# Altium footprint library Texas Instruments Footprints.PcbLib: 429 footprints (part 11 of 32)
Each footprint in its own frame and in the unit in brackets; x right, y up, seen from the top. Pads: shape width x height; smd on the part's side, far side on the other; paste and mask are expansions set on the pad; w line width, h text height; cw(c..) or ccw(c..) is an arc to the next point about the centre after c.
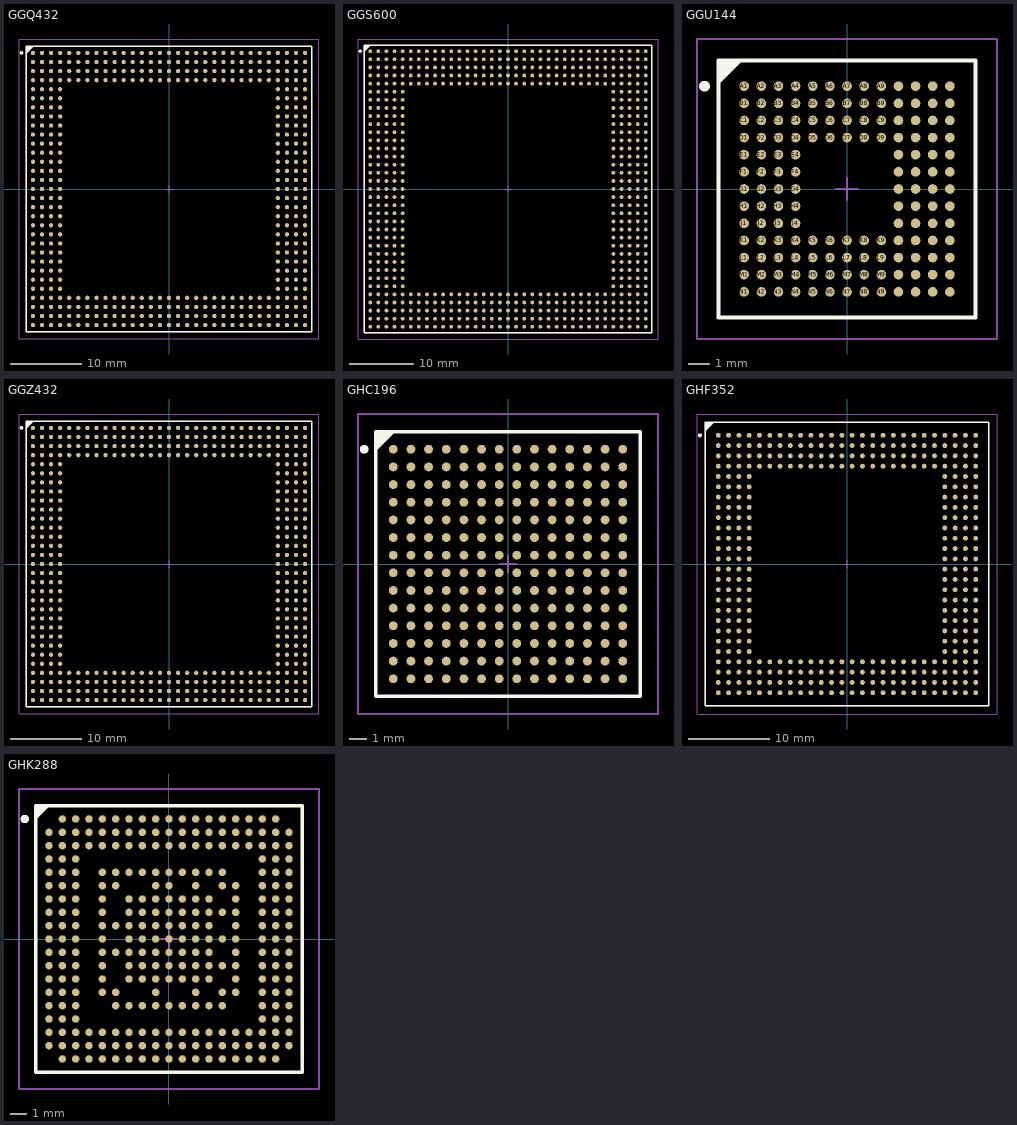
[diagram p10: the footprints below, top view; thin cyan lines are the x and y axes]

## GGQ432 [mm] "432-Ball Ball Grid Array 1.27 mm Pitch"
height 1.7
pads (432):
  round 0.6 smd: A1(-19.05,19.05) A2(-17.78,19.05) A3(-16.51,19.05) A4(-15.24,19.05) A5(-13.97,19.05) A6(-12.7,19.05) A7(-11.43,19.05) A8(-10.16,19.05) A9(-8.89,19.05) A10(-7.62,19.05) A11(-6.35,19.05) A12(-5.08,19.05) A13(-3.81,19.05) A14(-2.54,19.05) A15(-1.27,19.05) A16(0,19.05) A17(1.27,19.05) A18(2.54,19.05) A19(3.81,19.05) A20(5.08,19.05) A21(6.35,19.05) A22(7.62,19.05) A23(8.89,19.05) A24(10.16,19.05) A25(11.43,19.05) A26(12.7,19.05) A27(13.97,19.05) A28(15.24,19.05) A29(16.51,19.05) A30(17.78,19.05) A31(19.05,19.05) AA1(-19.05,-6.35) AA2(-17.78,-6.35) AA3(-16.51,-6.35) AA4(-15.24,-6.35) AA28(15.24,-6.35) AA29(16.51,-6.35) AA30(17.78,-6.35) AA31(19.05,-6.35) AB1(-19.05,-7.62) AB2(-17.78,-7.62) AB3(-16.51,-7.62) AB4(-15.24,-7.62) AB28(15.24,-7.62) AB29(16.51,-7.62) AB30(17.78,-7.62) AB31(19.05,-7.62) AC1(-19.05,-8.89) AC2(-17.78,-8.89) AC3(-16.51,-8.89) AC4(-15.24,-8.89) AC28(15.24,-8.89) AC29(16.51,-8.89) AC30(17.78,-8.89) AC31(19.05,-8.89) AD1(-19.05,-10.16) AD2(-17.78,-10.16) AD3(-16.51,-10.16) AD4(-15.24,-10.16) AD28(15.24,-10.16) AD29(16.51,-10.16) AD30(17.78,-10.16) AD31(19.05,-10.16) AE1(-19.05,-11.43) AE2(-17.78,-11.43) AE3(-16.51,-11.43) AE4(-15.24,-11.43) AE28(15.24,-11.43) AE29(16.51,-11.43) AE30(17.78,-11.43) AE31(19.05,-11.43) AF1(-19.05,-12.7) AF2(-17.78,-12.7) AF3(-16.51,-12.7) AF4(-15.24,-12.7) AF28(15.24,-12.7) AF29(16.51,-12.7) AF30(17.78,-12.7) AF31(19.05,-12.7) AG1(-19.05,-13.97) AG2(-17.78,-13.97) AG3(-16.51,-13.97) AG4(-15.24,-13.97) AG28(15.24,-13.97) AG29(16.51,-13.97) AG30(17.78,-13.97) AG31(19.05,-13.97) AH1(-19.05,-15.24) AH2(-17.78,-15.24) AH3(-16.51,-15.24) AH4(-15.24,-15.24) AH5(-13.97,-15.24) AH6(-12.7,-15.24) AH7(-11.43,-15.24) AH8(-10.16,-15.24) AH9(-8.89,-15.24) AH10(-7.62,-15.24) AH11(-6.35,-15.24) AH12(-5.08,-15.24) AH13(-3.81,-15.24) AH14(-2.54,-15.24) AH15(-1.27,-15.24) AH16(0,-15.24) AH17(1.27,-15.24) AH18(2.54,-15.24) AH19(3.81,-15.24) AH20(5.08,-15.24) AH21(6.35,-15.24) AH22(7.62,-15.24) AH23(8.89,-15.24) AH24(10.16,-15.24) AH25(11.43,-15.24) AH26(12.7,-15.24) AH27(13.97,-15.24) AH28(15.24,-15.24) AH29(16.51,-15.24) AH30(17.78,-15.24) AH31(19.05,-15.24) AJ1(-19.05,-16.51) AJ2(-17.78,-16.51) AJ3(-16.51,-16.51) AJ4(-15.24,-16.51) AJ5(-13.97,-16.51) AJ6(-12.7,-16.51) AJ7(-11.43,-16.51) AJ8(-10.16,-16.51) AJ9(-8.89,-16.51) AJ10(-7.62,-16.51) AJ11(-6.35,-16.51) AJ12(-5.08,-16.51) AJ13(-3.81,-16.51) AJ14(-2.54,-16.51) AJ15(-1.27,-16.51) AJ16(0,-16.51) AJ17(1.27,-16.51) AJ18(2.54,-16.51) AJ19(3.81,-16.51) AJ20(5.08,-16.51) AJ21(6.35,-16.51) AJ22(7.62,-16.51) AJ23(8.89,-16.51) AJ24(10.16,-16.51) AJ25(11.43,-16.51) AJ26(12.7,-16.51) AJ27(13.97,-16.51) AJ28(15.24,-16.51) AJ29(16.51,-16.51) AJ30(17.78,-16.51) AJ31(19.05,-16.51) AK1(-19.05,-17.78) AK2(-17.78,-17.78) AK3(-16.51,-17.78) AK4(-15.24,-17.78) AK5(-13.97,-17.78) AK6(-12.7,-17.78) AK7(-11.43,-17.78) AK8(-10.16,-17.78) AK9(-8.89,-17.78) AK10(-7.62,-17.78) AK11(-6.35,-17.78) AK12(-5.08,-17.78) AK13(-3.81,-17.78) AK14(-2.54,-17.78) AK15(-1.27,-17.78) AK16(0,-17.78) AK17(1.27,-17.78) AK18(2.54,-17.78) AK19(3.81,-17.78) AK20(5.08,-17.78) AK21(6.35,-17.78) AK22(7.62,-17.78) AK23(8.89,-17.78) AK24(10.16,-17.78) AK25(11.43,-17.78) AK26(12.7,-17.78) AK27(13.97,-17.78) AK28(15.24,-17.78) AK29(16.51,-17.78) AK30(17.78,-17.78) AK31(19.05,-17.78) AL1(-19.05,-19.05) AL2(-17.78,-19.05) AL3(-16.51,-19.05) AL4(-15.24,-19.05) AL5(-13.97,-19.05) AL6(-12.7,-19.05) AL7(-11.43,-19.05) AL8(-10.16,-19.05) AL9(-8.89,-19.05) AL10(-7.62,-19.05) AL11(-6.35,-19.05) AL12(-5.08,-19.05) AL13(-3.81,-19.05) AL14(-2.54,-19.05) AL15(-1.27,-19.05) AL16(0,-19.05) AL17(1.27,-19.05) AL18(2.54,-19.05) AL19(3.81,-19.05) AL20(5.08,-19.05) AL21(6.35,-19.05) AL22(7.62,-19.05) AL23(8.89,-19.05) AL24(10.16,-19.05) AL25(11.43,-19.05) AL26(12.7,-19.05) AL27(13.97,-19.05) AL28(15.24,-19.05) AL29(16.51,-19.05) AL30(17.78,-19.05) AL31(19.05,-19.05) B1(-19.05,17.78) B2(-17.78,17.78) B3(-16.51,17.78) B4(-15.24,17.78) B5(-13.97,17.78) B6(-12.7,17.78) B7(-11.43,17.78) B8(-10.16,17.78) B9(-8.89,17.78) B10(-7.62,17.78) B11(-6.35,17.78) B12(-5.08,17.78) B13(-3.81,17.78) B14(-2.54,17.78) B15(-1.27,17.78) B16(0,17.78) B17(1.27,17.78) B18(2.54,17.78) B19(3.81,17.78) B20(5.08,17.78) B21(6.35,17.78) B22(7.62,17.78) B23(8.89,17.78) B24(10.16,17.78) B25(11.43,17.78) B26(12.7,17.78) B27(13.97,17.78) B28(15.24,17.78) B29(16.51,17.78) B30(17.78,17.78) B31(19.05,17.78) C1(-19.05,16.51) C2(-17.78,16.51) C3(-16.51,16.51) C4(-15.24,16.51) C5(-13.97,16.51) C6(-12.7,16.51) C7(-11.43,16.51) C8(-10.16,16.51) C9(-8.89,16.51) C10(-7.62,16.51) C11(-6.35,16.51) C12(-5.08,16.51) C13(-3.81,16.51) C14(-2.54,16.51) C15(-1.27,16.51) C16(0,16.51) C17(1.27,16.51) C18(2.54,16.51) C19(3.81,16.51) C20(5.08,16.51) C21(6.35,16.51) C22(7.62,16.51) C23(8.89,16.51) C24(10.16,16.51) C25(11.43,16.51) C26(12.7,16.51) C27(13.97,16.51) C28(15.24,16.51) C29(16.51,16.51) C30(17.78,16.51) C31(19.05,16.51) D1(-19.05,15.24) D2(-17.78,15.24) D3(-16.51,15.24) D4(-15.24,15.24) D5(-13.97,15.24) D6(-12.7,15.24) D7(-11.43,15.24) D8(-10.16,15.24) D9(-8.89,15.24) D10(-7.62,15.24) D11(-6.35,15.24) D12(-5.08,15.24) D13(-3.81,15.24) D14(-2.54,15.24) D15(-1.27,15.24) D16(0,15.24) D17(1.27,15.24) D18(2.54,15.24) D19(3.81,15.24) D20(5.08,15.24) D21(6.35,15.24) D22(7.62,15.24) D23(8.89,15.24) D24(10.16,15.24) D25(11.43,15.24) D26(12.7,15.24) D27(13.97,15.24) D28(15.24,15.24) D29(16.51,15.24) D30(17.78,15.24) D31(19.05,15.24) E1(-19.05,13.97) E2(-17.78,13.97) E3(-16.51,13.97) E4(-15.24,13.97) E28(15.24,13.97) E29(16.51,13.97) E30(17.78,13.97) E31(19.05,13.97) F1(-19.05,12.7) F2(-17.78,12.7) F3(-16.51,12.7) F4(-15.24,12.7) F28(15.24,12.7) F29(16.51,12.7) F30(17.78,12.7) F31(19.05,12.7) G1(-19.05,11.43) G2(-17.78,11.43) G3(-16.51,11.43) G4(-15.24,11.43) G28(15.24,11.43) G29(16.51,11.43) G30(17.78,11.43) G31(19.05,11.43) H1(-19.05,10.16) H2(-17.78,10.16) H3(-16.51,10.16) H4(-15.24,10.16) H28(15.24,10.16) H29(16.51,10.16) H30(17.78,10.16) H31(19.05,10.16) J1(-19.05,8.89) J2(-17.78,8.89) J3(-16.51,8.89) J4(-15.24,8.89) J28(15.24,8.89) J29(16.51,8.89) J30(17.78,8.89) J31(19.05,8.89) K1(-19.05,7.62) K2(-17.78,7.62) K3(-16.51,7.62) K4(-15.24,7.62) K28(15.24,7.62) K29(16.51,7.62) K30(17.78,7.62) K31(19.05,7.62) L1(-19.05,6.35) L2(-17.78,6.35) L3(-16.51,6.35) L4(-15.24,6.35) L28(15.24,6.35) L29(16.51,6.35) L30(17.78,6.35) L31(19.05,6.35) M1(-19.05,5.08) M2(-17.78,5.08) M3(-16.51,5.08) M4(-15.24,5.08) M28(15.24,5.08) M29(16.51,5.08) M30(17.78,5.08) M31(19.05,5.08) N1(-19.05,3.81) N2(-17.78,3.81) N3(-16.51,3.81) N4(-15.24,3.81) N28(15.24,3.81) N29(16.51,3.81) N30(17.78,3.81) N31(19.05,3.81) P1(-19.05,2.54) P2(-17.78,2.54) P3(-16.51,2.54) P4(-15.24,2.54) P28(15.24,2.54) P29(16.51,2.54) P30(17.78,2.54) P31(19.05,2.54) R1(-19.05,1.27) R2(-17.78,1.27) R3(-16.51,1.27) R4(-15.24,1.27) R28(15.24,1.27) R29(16.51,1.27) R30(17.78,1.27) R31(19.05,1.27) T1(-19.05,0) T2(-17.78,0) T3(-16.51,0) T4(-15.24,0) T28(15.24,0) T29(16.51,0) T30(17.78,0) T31(19.05,0) U1(-19.05,-1.27) U2(-17.78,-1.27) U3(-16.51,-1.27) U4(-15.24,-1.27) U28(15.24,-1.27) U29(16.51,-1.27) U30(17.78,-1.27) U31(19.05,-1.27) V1(-19.05,-2.54) V2(-17.78,-2.54) V3(-16.51,-2.54) V4(-15.24,-2.54) V28(15.24,-2.54) V29(16.51,-2.54) V30(17.78,-2.54) V31(19.05,-2.54) W1(-19.05,-3.81) W2(-17.78,-3.81) W3(-16.51,-3.81) W4(-15.24,-3.81) W28(15.24,-3.81) W29(16.51,-3.81) W30(17.78,-3.81) W31(19.05,-3.81) Y1(-19.05,-5.08) Y2(-17.78,-5.08) Y3(-16.51,-5.08) Y4(-15.24,-5.08) Y28(15.24,-5.08) Y29(16.51,-5.08) Y30(17.78,-5.08) Y31(19.05,-5.08)
Top Overlay:
  circle w0.25: c-20.65,19.05 r0.125
  region: -19.09,20 -20,19.09 -20,20
  lines w0.2: -20,19.09 -19.09,20 ; -20,-20 -20,20 20,20 20,-20 -20,-20
Mechanical 13:
  lines w0.1: -20,-20 -20,20 20,20 20,-20 -20,-20
Mechanical 15:
  lines w0.1: -0.5,0 0.5,0 ; 0,-0.5 0,0.5 ; -21,-21 -21,21 21,21 21,-21 -21,-21
3D body: height 1.7, standoff 0, extent -20,-20 20,20

## GGS600 [mm] "600-Ball Ball Grid Array 1.27 mm Pitch"
height 1.7
pads (600):
  round 0.6 smd: A1(-21.59,21.59) A2(-20.32,21.59) A3(-19.05,21.59) A4(-17.78,21.59) A5(-16.51,21.59) A6(-15.24,21.59) A7(-13.97,21.59) A8(-12.7,21.59) A9(-11.43,21.59) A10(-10.16,21.59) A11(-8.89,21.59) A12(-7.62,21.59) A13(-6.35,21.59) A14(-5.08,21.59) A15(-3.81,21.59) A16(-2.54,21.59) A17(-1.27,21.59) A18(0,21.59) A19(1.27,21.59) A20(2.54,21.59) A21(3.81,21.59) A22(5.08,21.59) A23(6.35,21.59) A24(7.62,21.59) A25(8.89,21.59) A26(10.16,21.59) A27(11.43,21.59) A28(12.7,21.59) A29(13.97,21.59) A30(15.24,21.59) A31(16.51,21.59) A32(17.78,21.59) A33(19.05,21.59) A34(20.32,21.59) A35(21.59,21.59) AA1(-21.59,-3.81) AA2(-20.32,-3.81) AA3(-19.05,-3.81) AA4(-17.78,-3.81) AA5(-16.51,-3.81) AA31(16.51,-3.81) AA32(17.78,-3.81) AA33(19.05,-3.81) AA34(20.32,-3.81) AA35(21.59,-3.81) AB1(-21.59,-5.08) AB2(-20.32,-5.08) AB3(-19.05,-5.08) AB4(-17.78,-5.08) AB5(-16.51,-5.08) AB31(16.51,-5.08) AB32(17.78,-5.08) AB33(19.05,-5.08) AB34(20.32,-5.08) AB35(21.59,-5.08) AC1(-21.59,-6.35) AC2(-20.32,-6.35) AC3(-19.05,-6.35) AC4(-17.78,-6.35) AC5(-16.51,-6.35) AC31(16.51,-6.35) AC32(17.78,-6.35) AC33(19.05,-6.35) AC34(20.32,-6.35) AC35(21.59,-6.35) AD1(-21.59,-7.62) AD2(-20.32,-7.62) AD3(-19.05,-7.62) AD4(-17.78,-7.62) AD5(-16.51,-7.62) AD31(16.51,-7.62) AD32(17.78,-7.62) AD33(19.05,-7.62) AD34(20.32,-7.62) AD35(21.59,-7.62) AE1(-21.59,-8.89) AE2(-20.32,-8.89) AE3(-19.05,-8.89) AE4(-17.78,-8.89) AE5(-16.51,-8.89) AE31(16.51,-8.89) AE32(17.78,-8.89) AE33(19.05,-8.89) AE34(20.32,-8.89) AE35(21.59,-8.89) AF1(-21.59,-10.16) AF2(-20.32,-10.16) AF3(-19.05,-10.16) AF4(-17.78,-10.16) AF5(-16.51,-10.16) AF31(16.51,-10.16) AF32(17.78,-10.16) AF33(19.05,-10.16) AF34(20.32,-10.16) AF35(21.59,-10.16) AG1(-21.59,-11.43) AG2(-20.32,-11.43) AG3(-19.05,-11.43) AG4(-17.78,-11.43) AG5(-16.51,-11.43) AG31(16.51,-11.43) AG32(17.78,-11.43) AG33(19.05,-11.43) AG34(20.32,-11.43) AG35(21.59,-11.43) AH1(-21.59,-12.7) AH2(-20.32,-12.7) AH3(-19.05,-12.7) AH4(-17.78,-12.7) AH5(-16.51,-12.7) AH31(16.51,-12.7) AH32(17.78,-12.7) AH33(19.05,-12.7) AH34(20.32,-12.7) AH35(21.59,-12.7) AJ1(-21.59,-13.97) AJ2(-20.32,-13.97) AJ3(-19.05,-13.97) AJ4(-17.78,-13.97) AJ5(-16.51,-13.97) AJ31(16.51,-13.97) AJ32(17.78,-13.97) AJ33(19.05,-13.97) AJ34(20.32,-13.97) AJ35(21.59,-13.97) AK1(-21.59,-15.24) AK2(-20.32,-15.24) AK3(-19.05,-15.24) AK4(-17.78,-15.24) AK5(-16.51,-15.24) AK31(16.51,-15.24) AK32(17.78,-15.24) AK33(19.05,-15.24) AK34(20.32,-15.24) AK35(21.59,-15.24) AL1(-21.59,-16.51) AL2(-20.32,-16.51) AL3(-19.05,-16.51) AL4(-17.78,-16.51) AL5(-16.51,-16.51) AL6(-15.24,-16.51) AL7(-13.97,-16.51) AL8(-12.7,-16.51) AL9(-11.43,-16.51) AL10(-10.16,-16.51) AL11(-8.89,-16.51) AL12(-7.62,-16.51) AL13(-6.35,-16.51) AL14(-5.08,-16.51) AL15(-3.81,-16.51) AL16(-2.54,-16.51) AL17(-1.27,-16.51) AL18(0,-16.51) AL19(1.27,-16.51) AL20(2.54,-16.51) AL21(3.81,-16.51) AL22(5.08,-16.51) AL23(6.35,-16.51) AL24(7.62,-16.51) AL25(8.89,-16.51) AL26(10.16,-16.51) AL27(11.43,-16.51) AL28(12.7,-16.51) AL29(13.97,-16.51) AL30(15.24,-16.51) AL31(16.51,-16.51) AL32(17.78,-16.51) AL33(19.05,-16.51) AL34(20.32,-16.51) AL35(21.59,-16.51) AM1(-21.59,-17.78) AM2(-20.32,-17.78) AM3(-19.05,-17.78) AM4(-17.78,-17.78) AM5(-16.51,-17.78) AM6(-15.24,-17.78) AM7(-13.97,-17.78) AM8(-12.7,-17.78) AM9(-11.43,-17.78) AM10(-10.16,-17.78) AM11(-8.89,-17.78) AM12(-7.62,-17.78) AM13(-6.35,-17.78) AM14(-5.08,-17.78) AM15(-3.81,-17.78) AM16(-2.54,-17.78) AM17(-1.27,-17.78) AM18(0,-17.78) AM19(1.27,-17.78) AM20(2.54,-17.78) AM21(3.81,-17.78) AM22(5.08,-17.78) AM23(6.35,-17.78) AM24(7.62,-17.78) AM25(8.89,-17.78) AM26(10.16,-17.78) AM27(11.43,-17.78) AM28(12.7,-17.78) AM29(13.97,-17.78) AM30(15.24,-17.78) AM31(16.51,-17.78) AM32(17.78,-17.78) AM33(19.05,-17.78) AM34(20.32,-17.78) AM35(21.59,-17.78) AN1(-21.59,-19.05) AN2(-20.32,-19.05) AN3(-19.05,-19.05) AN4(-17.78,-19.05) AN5(-16.51,-19.05) AN6(-15.24,-19.05) AN7(-13.97,-19.05) AN8(-12.7,-19.05) AN9(-11.43,-19.05) AN10(-10.16,-19.05) AN11(-8.89,-19.05) AN12(-7.62,-19.05) AN13(-6.35,-19.05) AN14(-5.08,-19.05) AN15(-3.81,-19.05) AN16(-2.54,-19.05) AN17(-1.27,-19.05) AN18(0,-19.05) AN19(1.27,-19.05) AN20(2.54,-19.05) AN21(3.81,-19.05) AN22(5.08,-19.05) AN23(6.35,-19.05) AN24(7.62,-19.05) AN25(8.89,-19.05) AN26(10.16,-19.05) AN27(11.43,-19.05) AN28(12.7,-19.05) AN29(13.97,-19.05) AN30(15.24,-19.05) AN31(16.51,-19.05) AN32(17.78,-19.05) AN33(19.05,-19.05) AN34(20.32,-19.05) AN35(21.59,-19.05) AP1(-21.59,-20.32) AP2(-20.32,-20.32) AP3(-19.05,-20.32) AP4(-17.78,-20.32) AP5(-16.51,-20.32) AP6(-15.24,-20.32) AP7(-13.97,-20.32) AP8(-12.7,-20.32) AP9(-11.43,-20.32) AP10(-10.16,-20.32) AP11(-8.89,-20.32) AP12(-7.62,-20.32) AP13(-6.35,-20.32) AP14(-5.08,-20.32) AP15(-3.81,-20.32) AP16(-2.54,-20.32) AP17(-1.27,-20.32) AP18(0,-20.32) AP19(1.27,-20.32) AP20(2.54,-20.32) AP21(3.81,-20.32) AP22(5.08,-20.32) AP23(6.35,-20.32) AP24(7.62,-20.32) AP25(8.89,-20.32) AP26(10.16,-20.32) AP27(11.43,-20.32) AP28(12.7,-20.32) AP29(13.97,-20.32) AP30(15.24,-20.32) AP31(16.51,-20.32) AP32(17.78,-20.32) AP33(19.05,-20.32) AP34(20.32,-20.32) AP35(21.59,-20.32) AR1(-21.59,-21.59) AR2(-20.32,-21.59) AR3(-19.05,-21.59) AR4(-17.78,-21.59) AR5(-16.51,-21.59) AR6(-15.24,-21.59) AR7(-13.97,-21.59) AR8(-12.7,-21.59) AR9(-11.43,-21.59) AR10(-10.16,-21.59) AR11(-8.89,-21.59) AR12(-7.62,-21.59) AR13(-6.35,-21.59) AR14(-5.08,-21.59) AR15(-3.81,-21.59) AR16(-2.54,-21.59) AR17(-1.27,-21.59) AR18(0,-21.59) AR19(1.27,-21.59) AR20(2.54,-21.59) AR21(3.81,-21.59) AR22(5.08,-21.59) AR23(6.35,-21.59) AR24(7.62,-21.59) AR25(8.89,-21.59) AR26(10.16,-21.59) AR27(11.43,-21.59) AR28(12.7,-21.59) AR29(13.97,-21.59) AR30(15.24,-21.59) AR31(16.51,-21.59) AR32(17.78,-21.59) AR33(19.05,-21.59) AR34(20.32,-21.59) AR35(21.59,-21.59) B1(-21.59,20.32) B2(-20.32,20.32) B3(-19.05,20.32) B4(-17.78,20.32) B5(-16.51,20.32) B6(-15.24,20.32) B7(-13.97,20.32) B8(-12.7,20.32) B9(-11.43,20.32) B10(-10.16,20.32) B11(-8.89,20.32) B12(-7.62,20.32) B13(-6.35,20.32) B14(-5.08,20.32) B15(-3.81,20.32) B16(-2.54,20.32) B17(-1.27,20.32) B18(0,20.32) B19(1.27,20.32) B20(2.54,20.32) B21(3.81,20.32) B22(5.08,20.32) B23(6.35,20.32) B24(7.62,20.32) B25(8.89,20.32) B26(10.16,20.32) B27(11.43,20.32) B28(12.7,20.32) B29(13.97,20.32) B30(15.24,20.32) B31(16.51,20.32) B32(17.78,20.32) B33(19.05,20.32) B34(20.32,20.32) B35(21.59,20.32) C1(-21.59,19.05) C2(-20.32,19.05) C3(-19.05,19.05) C4(-17.78,19.05) C5(-16.51,19.05) C6(-15.24,19.05) C7(-13.97,19.05) C8(-12.7,19.05) C9(-11.43,19.05) C10(-10.16,19.05) C11(-8.89,19.05) C12(-7.62,19.05) C13(-6.35,19.05) C14(-5.08,19.05) C15(-3.81,19.05) C16(-2.54,19.05) C17(-1.27,19.05) C18(0,19.05) C19(1.27,19.05) C20(2.54,19.05) C21(3.81,19.05) C22(5.08,19.05) C23(6.35,19.05) C24(7.62,19.05) C25(8.89,19.05) C26(10.16,19.05) C27(11.43,19.05) C28(12.7,19.05) C29(13.97,19.05) C30(15.24,19.05) C31(16.51,19.05) C32(17.78,19.05) C33(19.05,19.05) C34(20.32,19.05) C35(21.59,19.05) D1(-21.59,17.78) D2(-20.32,17.78) D3(-19.05,17.78) D4(-17.78,17.78) D5(-16.51,17.78) D6(-15.24,17.78) D7(-13.97,17.78) D8(-12.7,17.78) D9(-11.43,17.78) D10(-10.16,17.78) D11(-8.89,17.78) D12(-7.62,17.78) D13(-6.35,17.78) D14(-5.08,17.78) D15(-3.81,17.78) D16(-2.54,17.78) D17(-1.27,17.78) D18(0,17.78) D19(1.27,17.78) D20(2.54,17.78) D21(3.81,17.78) D22(5.08,17.78) D23(6.35,17.78) D24(7.62,17.78) D25(8.89,17.78) D26(10.16,17.78) D27(11.43,17.78) D28(12.7,17.78) D29(13.97,17.78) D30(15.24,17.78) D31(16.51,17.78) D32(17.78,17.78) D33(19.05,17.78) D34(20.32,17.78) D35(21.59,17.78) E1(-21.59,16.51) E2(-20.32,16.51) E3(-19.05,16.51) E4(-17.78,16.51) E5(-16.51,16.51) E6(-15.24,16.51) E7(-13.97,16.51) E8(-12.7,16.51) E9(-11.43,16.51) E10(-10.16,16.51) E11(-8.89,16.51) E12(-7.62,16.51) E13(-6.35,16.51) E14(-5.08,16.51) E15(-3.81,16.51) E16(-2.54,16.51) E17(-1.27,16.51) E18(0,16.51) E19(1.27,16.51) E20(2.54,16.51) E21(3.81,16.51) E22(5.08,16.51) E23(6.35,16.51) E24(7.62,16.51) E25(8.89,16.51) E26(10.16,16.51) E27(11.43,16.51) E28(12.7,16.51) E29(13.97,16.51) E30(15.24,16.51) E31(16.51,16.51) E32(17.78,16.51) E33(19.05,16.51) E34(20.32,16.51) E35(21.59,16.51) F1(-21.59,15.24) F2(-20.32,15.24) F3(-19.05,15.24) F4(-17.78,15.24) F5(-16.51,15.24) F31(16.51,15.24) F32(17.78,15.24) F33(19.05,15.24) F34(20.32,15.24) F35(21.59,15.24) G1(-21.59,13.97) G2(-20.32,13.97) G3(-19.05,13.97) G4(-17.78,13.97) G5(-16.51,13.97) G31(16.51,13.97) G32(17.78,13.97) G33(19.05,13.97) G34(20.32,13.97) G35(21.59,13.97) H1(-21.59,12.7) H2(-20.32,12.7) H3(-19.05,12.7) H4(-17.78,12.7) H5(-16.51,12.7) H31(16.51,12.7) H32(17.78,12.7) H33(19.05,12.7) H34(20.32,12.7) H35(21.59,12.7) J1(-21.59,11.43) J2(-20.32,11.43) J3(-19.05,11.43) J4(-17.78,11.43) J5(-16.51,11.43) J31(16.51,11.43) J32(17.78,11.43) J33(19.05,11.43) J34(20.32,11.43) J35(21.59,11.43) K1(-21.59,10.16) K2(-20.32,10.16) K3(-19.05,10.16) K4(-17.78,10.16) K5(-16.51,10.16) K31(16.51,10.16) K32(17.78,10.16) K33(19.05,10.16) K34(20.32,10.16) K35(21.59,10.16) L1(-21.59,8.89) L2(-20.32,8.89) L3(-19.05,8.89) L4(-17.78,8.89) L5(-16.51,8.89) L31(16.51,8.89) L32(17.78,8.89) L33(19.05,8.89) L34(20.32,8.89) L35(21.59,8.89) M1(-21.59,7.62) M2(-20.32,7.62) M3(-19.05,7.62) M4(-17.78,7.62) M5(-16.51,7.62) M31(16.51,7.62) M32(17.78,7.62) M33(19.05,7.62) M34(20.32,7.62) M35(21.59,7.62) N1(-21.59,6.35) N2(-20.32,6.35) N3(-19.05,6.35) N4(-17.78,6.35) N5(-16.51,6.35) N31(16.51,6.35) N32(17.78,6.35) N33(19.05,6.35) N34(20.32,6.35) N35(21.59,6.35) P1(-21.59,5.08) P2(-20.32,5.08) P3(-19.05,5.08) P4(-17.78,5.08) P5(-16.51,5.08) P31(16.51,5.08) P32(17.78,5.08) P33(19.05,5.08) P34(20.32,5.08) P35(21.59,5.08) R1(-21.59,3.81) R2(-20.32,3.81) R3(-19.05,3.81) R4(-17.78,3.81) R5(-16.51,3.81) R31(16.51,3.81) R32(17.78,3.81) R33(19.05,3.81) R34(20.32,3.81) R35(21.59,3.81) T1(-21.59,2.54) T2(-20.32,2.54) T3(-19.05,2.54) T4(-17.78,2.54) T5(-16.51,2.54) T31(16.51,2.54) T32(17.78,2.54) T33(19.05,2.54) T34(20.32,2.54) T35(21.59,2.54) U1(-21.59,1.27) U2(-20.32,1.27) U3(-19.05,1.27) U4(-17.78,1.27) U5(-16.51,1.27) U31(16.51,1.27) U32(17.78,1.27) U33(19.05,1.27) U34(20.32,1.27) U35(21.59,1.27) V1(-21.59,0) V2(-20.32,0) V3(-19.05,0) V4(-17.78,0) V5(-16.51,0) V31(16.51,0) V32(17.78,0) V33(19.05,0) V34(20.32,0) V35(21.59,0) W1(-21.59,-1.27) W2(-20.32,-1.27) W3(-19.05,-1.27) W4(-17.78,-1.27) W5(-16.51,-1.27) W31(16.51,-1.27) W32(17.78,-1.27) W33(19.05,-1.27) W34(20.32,-1.27) W35(21.59,-1.27) Y1(-21.59,-2.54) Y2(-20.32,-2.54) Y3(-19.05,-2.54) Y4(-17.78,-2.54) Y5(-16.51,-2.54) Y31(16.51,-2.54) Y32(17.78,-2.54) Y33(19.05,-2.54) Y34(20.32,-2.54) Y35(21.59,-2.54)
Top Overlay:
  circle w0.25: c-23.15,21.59 r0.125
  region: -21.67,22.5 -22.5,21.67 -22.5,22.5
  lines w0.2: -22.5,21.67 -21.67,22.5 ; -22.5,-22.5 -22.5,22.5 22.5,22.5 22.5,-22.5 -22.5,-22.5
Mechanical 13:
  lines w0.1: -22.5,-22.5 -22.5,22.5 22.5,22.5 22.5,-22.5 -22.5,-22.5
Mechanical 15:
  lines w0.1: -0.5,0 0.5,0 ; 0,-0.5 0,0.5 ; -23.5,-23.5 -23.5,23.5 23.5,23.5 23.5,-23.5 -23.5,-23.5
3D body: height 1.7, standoff 0, extent -22.5,-22.5 22.5,22.5

## GGU144 [mm] "144-Ball Ball Grid Array 0.8 mm Pitch"
height 1.4
pads (144):
  round 0.45 smd: A1(-4.8,4.8) A2(-4,4.8) A3(-3.2,4.8) A4(-2.4,4.8) A5(-1.6,4.8) A6(-0.8,4.8) A7(0,4.8) A8(0.8,4.8) A9(1.6,4.8) A10(2.4,4.8) A11(3.2,4.8) A12(4,4.8) A13(4.8,4.8) B1(-4.8,4) B2(-4,4) B3(-3.2,4) B4(-2.4,4) B5(-1.6,4) B6(-0.8,4) B7(0,4) B8(0.8,4) B9(1.6,4) B10(2.4,4) B11(3.2,4) B12(4,4) B13(4.8,4) C1(-4.8,3.2) C2(-4,3.2) C3(-3.2,3.2) C4(-2.4,3.2) C5(-1.6,3.2) C6(-0.8,3.2) C7(0,3.2) C8(0.8,3.2) C9(1.6,3.2) C10(2.4,3.2) C11(3.2,3.2) C12(4,3.2) C13(4.8,3.2) D1(-4.8,2.4) D2(-4,2.4) D3(-3.2,2.4) D4(-2.4,2.4) D5(-1.6,2.4) D6(-0.8,2.4) D7(0,2.4) D8(0.8,2.4) D9(1.6,2.4) D10(2.4,2.4) D11(3.2,2.4) D12(4,2.4) D13(4.8,2.4) E1(-4.8,1.6) E2(-4,1.6) E3(-3.2,1.6) E4(-2.4,1.6) E10(2.4,1.6) E11(3.2,1.6) E12(4,1.6) E13(4.8,1.6) F1(-4.8,0.8) F2(-4,0.8) F3(-3.2,0.8) F4(-2.4,0.8) F10(2.4,0.8) F11(3.2,0.8) F12(4,0.8) F13(4.8,0.8) G1(-4.8,0) G2(-4,0) G3(-3.2,0) G4(-2.4,0) G10(2.4,0) G11(3.2,0) G12(4,0) G13(4.8,0) H1(-4.8,-0.8) H2(-4,-0.8) H3(-3.2,-0.8) H4(-2.4,-0.8) H10(2.4,-0.8) H11(3.2,-0.8) H12(4,-0.8) H13(4.8,-0.8) J1(-4.8,-1.6) J2(-4,-1.6) J3(-3.2,-1.6) J4(-2.4,-1.6) J10(2.4,-1.6) J11(3.2,-1.6) J12(4,-1.6) J13(4.8,-1.6) K1(-4.8,-2.4) K2(-4,-2.4) K3(-3.2,-2.4) K4(-2.4,-2.4) K5(-1.6,-2.4) K6(-0.8,-2.4) K7(0,-2.4) K8(0.8,-2.4) K9(1.6,-2.4) K10(2.4,-2.4) K11(3.2,-2.4) K12(4,-2.4) K13(4.8,-2.4) L1(-4.8,-3.2) L2(-4,-3.2) L3(-3.2,-3.2) L4(-2.4,-3.2) L5(-1.6,-3.2) L6(-0.8,-3.2) L7(0,-3.2) L8(0.8,-3.2) L9(1.6,-3.2) L10(2.4,-3.2) L11(3.2,-3.2) L12(4,-3.2) L13(4.8,-3.2) M1(-4.8,-4) M2(-4,-4) M3(-3.2,-4) M4(-2.4,-4) M5(-1.6,-4) M6(-0.8,-4) M7(0,-4) M8(0.8,-4) M9(1.6,-4) M10(2.4,-4) M11(3.2,-4) M12(4,-4) M13(4.8,-4) N1(-4.8,-4.8) N2(-4,-4.8) N3(-3.2,-4.8) N4(-2.4,-4.8) N5(-1.6,-4.8) N6(-0.8,-4.8) N7(0,-4.8) N8(0.8,-4.8) N9(1.6,-4.8) N10(2.4,-4.8) N11(3.2,-4.8) N12(4,-4.8) N13(4.8,-4.8)
Top Overlay:
  circle w0.25: c-6.65,4.8 r0.125
  region: -5,6 -6,5 -6,6
  lines w0.2: -6,5 -5,6 ; -6,-6 6,-6 6,6 -6,6 -6,-6
Mechanical 13:
  lines w0.1: -6,-6 6,-6 6,6 -6,6 -6,-6
Mechanical 15:
  lines w0.1: -0.5,0 0.5,0 ; 0,-0.5 0,0.5 ; -7,-7 7,-7 7,7 -7,7 -7,-7
3D body: height 1.4, standoff 0, extent -6,-6 6,6

## GGZ432 [mm] "432-Ball Ball Grid Array 1.27 mm Pitch"
height 1.7
pads (432):
  round 0.6 smd: A1(-19.05,19.05) A2(-17.78,19.05) A3(-16.51,19.05) A4(-15.24,19.05) A5(-13.97,19.05) A6(-12.7,19.05) A7(-11.43,19.05) A8(-10.16,19.05) A9(-8.89,19.05) A10(-7.62,19.05) A11(-6.35,19.05) A12(-5.08,19.05) A13(-3.81,19.05) A14(-2.54,19.05) A15(-1.27,19.05) A16(0,19.05) A17(1.27,19.05) A18(2.54,19.05) A19(3.81,19.05) A20(5.08,19.05) A21(6.35,19.05) A22(7.62,19.05) A23(8.89,19.05) A24(10.16,19.05) A25(11.43,19.05) A26(12.7,19.05) A27(13.97,19.05) A28(15.24,19.05) A29(16.51,19.05) A30(17.78,19.05) A31(19.05,19.05) AA1(-19.05,-6.35) AA2(-17.78,-6.35) AA3(-16.51,-6.35) AA4(-15.24,-6.35) AA28(15.24,-6.35) AA29(16.51,-6.35) AA30(17.78,-6.35) AA31(19.05,-6.35) AB1(-19.05,-7.62) AB2(-17.78,-7.62) AB3(-16.51,-7.62) AB4(-15.24,-7.62) AB28(15.24,-7.62) AB29(16.51,-7.62) AB30(17.78,-7.62) AB31(19.05,-7.62) AC1(-19.05,-8.89) AC2(-17.78,-8.89) AC3(-16.51,-8.89) AC4(-15.24,-8.89) AC28(15.24,-8.89) AC29(16.51,-8.89) AC30(17.78,-8.89) AC31(19.05,-8.89) AD1(-19.05,-10.16) AD2(-17.78,-10.16) AD3(-16.51,-10.16) AD4(-15.24,-10.16) AD28(15.24,-10.16) AD29(16.51,-10.16) AD30(17.78,-10.16) AD31(19.05,-10.16) AE1(-19.05,-11.43) AE2(-17.78,-11.43) AE3(-16.51,-11.43) AE4(-15.24,-11.43) AE28(15.24,-11.43) AE29(16.51,-11.43) AE30(17.78,-11.43) AE31(19.05,-11.43) AF1(-19.05,-12.7) AF2(-17.78,-12.7) AF3(-16.51,-12.7) AF4(-15.24,-12.7) AF28(15.24,-12.7) AF29(16.51,-12.7) AF30(17.78,-12.7) AF31(19.05,-12.7) AG1(-19.05,-13.97) AG2(-17.78,-13.97) AG3(-16.51,-13.97) AG4(-15.24,-13.97) AG28(15.24,-13.97) AG29(16.51,-13.97) AG30(17.78,-13.97) AG31(19.05,-13.97) AH1(-19.05,-15.24) AH2(-17.78,-15.24) AH3(-16.51,-15.24) AH4(-15.24,-15.24) AH5(-13.97,-15.24) AH6(-12.7,-15.24) AH7(-11.43,-15.24) AH8(-10.16,-15.24) AH9(-8.89,-15.24) AH10(-7.62,-15.24) AH11(-6.35,-15.24) AH12(-5.08,-15.24) AH13(-3.81,-15.24) AH14(-2.54,-15.24) AH15(-1.27,-15.24) AH16(0,-15.24) AH17(1.27,-15.24) AH18(2.54,-15.24) AH19(3.81,-15.24) AH20(5.08,-15.24) AH21(6.35,-15.24) AH22(7.62,-15.24) AH23(8.89,-15.24) AH24(10.16,-15.24) AH25(11.43,-15.24) AH26(12.7,-15.24) AH27(13.97,-15.24) AH28(15.24,-15.24) AH29(16.51,-15.24) AH30(17.78,-15.24) AH31(19.05,-15.24) AJ1(-19.05,-16.51) AJ2(-17.78,-16.51) AJ3(-16.51,-16.51) AJ4(-15.24,-16.51) AJ5(-13.97,-16.51) AJ6(-12.7,-16.51) AJ7(-11.43,-16.51) AJ8(-10.16,-16.51) AJ9(-8.89,-16.51) AJ10(-7.62,-16.51) AJ11(-6.35,-16.51) AJ12(-5.08,-16.51) AJ13(-3.81,-16.51) AJ14(-2.54,-16.51) AJ15(-1.27,-16.51) AJ16(0,-16.51) AJ17(1.27,-16.51) AJ18(2.54,-16.51) AJ19(3.81,-16.51) AJ20(5.08,-16.51) AJ21(6.35,-16.51) AJ22(7.62,-16.51) AJ23(8.89,-16.51) AJ24(10.16,-16.51) AJ25(11.43,-16.51) AJ26(12.7,-16.51) AJ27(13.97,-16.51) AJ28(15.24,-16.51) AJ29(16.51,-16.51) AJ30(17.78,-16.51) AJ31(19.05,-16.51) AK1(-19.05,-17.78) AK2(-17.78,-17.78) AK3(-16.51,-17.78) AK4(-15.24,-17.78) AK5(-13.97,-17.78) AK6(-12.7,-17.78) AK7(-11.43,-17.78) AK8(-10.16,-17.78) AK9(-8.89,-17.78) AK10(-7.62,-17.78) AK11(-6.35,-17.78) AK12(-5.08,-17.78) AK13(-3.81,-17.78) AK14(-2.54,-17.78) AK15(-1.27,-17.78) AK16(0,-17.78) AK17(1.27,-17.78) AK18(2.54,-17.78) AK19(3.81,-17.78) AK20(5.08,-17.78) AK21(6.35,-17.78) AK22(7.62,-17.78) AK23(8.89,-17.78) AK24(10.16,-17.78) AK25(11.43,-17.78) AK26(12.7,-17.78) AK27(13.97,-17.78) AK28(15.24,-17.78) AK29(16.51,-17.78) AK30(17.78,-17.78) AK31(19.05,-17.78) AL1(-19.05,-19.05) AL2(-17.78,-19.05) AL3(-16.51,-19.05) AL4(-15.24,-19.05) AL5(-13.97,-19.05) AL6(-12.7,-19.05) AL7(-11.43,-19.05) AL8(-10.16,-19.05) AL9(-8.89,-19.05) AL10(-7.62,-19.05) AL11(-6.35,-19.05) AL12(-5.08,-19.05) AL13(-3.81,-19.05) AL14(-2.54,-19.05) AL15(-1.27,-19.05) AL16(0,-19.05) AL17(1.27,-19.05) AL18(2.54,-19.05) AL19(3.81,-19.05) AL20(5.08,-19.05) AL21(6.35,-19.05) AL22(7.62,-19.05) AL23(8.89,-19.05) AL24(10.16,-19.05) AL25(11.43,-19.05) AL26(12.7,-19.05) AL27(13.97,-19.05) AL28(15.24,-19.05) AL29(16.51,-19.05) AL30(17.78,-19.05) AL31(19.05,-19.05) B1(-19.05,17.78) B2(-17.78,17.78) B3(-16.51,17.78) B4(-15.24,17.78) B5(-13.97,17.78) B6(-12.7,17.78) B7(-11.43,17.78) B8(-10.16,17.78) B9(-8.89,17.78) B10(-7.62,17.78) B11(-6.35,17.78) B12(-5.08,17.78) B13(-3.81,17.78) B14(-2.54,17.78) B15(-1.27,17.78) B16(0,17.78) B17(1.27,17.78) B18(2.54,17.78) B19(3.81,17.78) B20(5.08,17.78) B21(6.35,17.78) B22(7.62,17.78) B23(8.89,17.78) B24(10.16,17.78) B25(11.43,17.78) B26(12.7,17.78) B27(13.97,17.78) B28(15.24,17.78) B29(16.51,17.78) B30(17.78,17.78) B31(19.05,17.78) C1(-19.05,16.51) C2(-17.78,16.51) C3(-16.51,16.51) C4(-15.24,16.51) C5(-13.97,16.51) C6(-12.7,16.51) C7(-11.43,16.51) C8(-10.16,16.51) C9(-8.89,16.51) C10(-7.62,16.51) C11(-6.35,16.51) C12(-5.08,16.51) C13(-3.81,16.51) C14(-2.54,16.51) C15(-1.27,16.51) C16(0,16.51) C17(1.27,16.51) C18(2.54,16.51) C19(3.81,16.51) C20(5.08,16.51) C21(6.35,16.51) C22(7.62,16.51) C23(8.89,16.51) C24(10.16,16.51) C25(11.43,16.51) C26(12.7,16.51) C27(13.97,16.51) C28(15.24,16.51) C29(16.51,16.51) C30(17.78,16.51) C31(19.05,16.51) D1(-19.05,15.24) D2(-17.78,15.24) D3(-16.51,15.24) D4(-15.24,15.24) D5(-13.97,15.24) D6(-12.7,15.24) D7(-11.43,15.24) D8(-10.16,15.24) D9(-8.89,15.24) D10(-7.62,15.24) D11(-6.35,15.24) D12(-5.08,15.24) D13(-3.81,15.24) D14(-2.54,15.24) D15(-1.27,15.24) D16(0,15.24) D17(1.27,15.24) D18(2.54,15.24) D19(3.81,15.24) D20(5.08,15.24) D21(6.35,15.24) D22(7.62,15.24) D23(8.89,15.24) D24(10.16,15.24) D25(11.43,15.24) D26(12.7,15.24) D27(13.97,15.24) D28(15.24,15.24) D29(16.51,15.24) D30(17.78,15.24) D31(19.05,15.24) E1(-19.05,13.97) E2(-17.78,13.97) E3(-16.51,13.97) E4(-15.24,13.97) E28(15.24,13.97) E29(16.51,13.97) E30(17.78,13.97) E31(19.05,13.97) F1(-19.05,12.7) F2(-17.78,12.7) F3(-16.51,12.7) F4(-15.24,12.7) F28(15.24,12.7) F29(16.51,12.7) F30(17.78,12.7) F31(19.05,12.7) G1(-19.05,11.43) G2(-17.78,11.43) G3(-16.51,11.43) G4(-15.24,11.43) G28(15.24,11.43) G29(16.51,11.43) G30(17.78,11.43) G31(19.05,11.43) H1(-19.05,10.16) H2(-17.78,10.16) H3(-16.51,10.16) H4(-15.24,10.16) H28(15.24,10.16) H29(16.51,10.16) H30(17.78,10.16) H31(19.05,10.16) J1(-19.05,8.89) J2(-17.78,8.89) J3(-16.51,8.89) J4(-15.24,8.89) J28(15.24,8.89) J29(16.51,8.89) J30(17.78,8.89) J31(19.05,8.89) K1(-19.05,7.62) K2(-17.78,7.62) K3(-16.51,7.62) K4(-15.24,7.62) K28(15.24,7.62) K29(16.51,7.62) K30(17.78,7.62) K31(19.05,7.62) L1(-19.05,6.35) L2(-17.78,6.35) L3(-16.51,6.35) L4(-15.24,6.35) L28(15.24,6.35) L29(16.51,6.35) L30(17.78,6.35) L31(19.05,6.35) M1(-19.05,5.08) M2(-17.78,5.08) M3(-16.51,5.08) M4(-15.24,5.08) M28(15.24,5.08) M29(16.51,5.08) M30(17.78,5.08) M31(19.05,5.08) N1(-19.05,3.81) N2(-17.78,3.81) N3(-16.51,3.81) N4(-15.24,3.81) N28(15.24,3.81) N29(16.51,3.81) N30(17.78,3.81) N31(19.05,3.81) P1(-19.05,2.54) P2(-17.78,2.54) P3(-16.51,2.54) P4(-15.24,2.54) P28(15.24,2.54) P29(16.51,2.54) P30(17.78,2.54) P31(19.05,2.54) R1(-19.05,1.27) R2(-17.78,1.27) R3(-16.51,1.27) R4(-15.24,1.27) R28(15.24,1.27) R29(16.51,1.27) R30(17.78,1.27) R31(19.05,1.27) T1(-19.05,0) T2(-17.78,0) T3(-16.51,0) T4(-15.24,0) T28(15.24,0) T29(16.51,0) T30(17.78,0) T31(19.05,0) U1(-19.05,-1.27) U2(-17.78,-1.27) U3(-16.51,-1.27) U4(-15.24,-1.27) U28(15.24,-1.27) U29(16.51,-1.27) U30(17.78,-1.27) U31(19.05,-1.27) V1(-19.05,-2.54) V2(-17.78,-2.54) V3(-16.51,-2.54) V4(-15.24,-2.54) V28(15.24,-2.54) V29(16.51,-2.54) V30(17.78,-2.54) V31(19.05,-2.54) W1(-19.05,-3.81) W2(-17.78,-3.81) W3(-16.51,-3.81) W4(-15.24,-3.81) W28(15.24,-3.81) W29(16.51,-3.81) W30(17.78,-3.81) W31(19.05,-3.81) Y1(-19.05,-5.08) Y2(-17.78,-5.08) Y3(-16.51,-5.08) Y4(-15.24,-5.08) Y28(15.24,-5.08) Y29(16.51,-5.08) Y30(17.78,-5.08) Y31(19.05,-5.08)
Top Overlay:
  circle w0.25: c-20.65,19.05 r0.125
  region: -19.09,20 -20,19.09 -20,20
  lines w0.2: -20,19.09 -19.09,20 ; -20,-20 -20,20 20,20 20,-20 -20,-20
Mechanical 13:
  lines w0.1: -20,-20 -20,20 20,20 20,-20 -20,-20
Mechanical 15:
  lines w0.1: -0.5,0 0.5,0 ; 0,-0.5 0,0.5 ; -21,-21 -21,21 21,21 21,-21 -21,-21
3D body: height 1.7, standoff 0, extent -20,-20 20,20

## GHC196 [mm] "196-Ball Ball Grid Array 1 mm Pitch"
height 1.5
pads (196):
  round 0.5 smd: A1(-6.5,6.5) A2(-5.5,6.5) A3(-4.5,6.5) A4(-3.5,6.5) A5(-2.5,6.5) A6(-1.5,6.5) A7(-0.5,6.5) A8(0.5,6.5) A9(1.5,6.5) A10(2.5,6.5) A11(3.5,6.5) A12(4.5,6.5) A13(5.5,6.5) A14(6.5,6.5) B1(-6.5,5.5) B2(-5.5,5.5) B3(-4.5,5.5) B4(-3.5,5.5) B5(-2.5,5.5) B6(-1.5,5.5) B7(-0.5,5.5) B8(0.5,5.5) B9(1.5,5.5) B10(2.5,5.5) B11(3.5,5.5) B12(4.5,5.5) B13(5.5,5.5) B14(6.5,5.5) C1(-6.5,4.5) C2(-5.5,4.5) C3(-4.5,4.5) C4(-3.5,4.5) C5(-2.5,4.5) C6(-1.5,4.5) C7(-0.5,4.5) C8(0.5,4.5) C9(1.5,4.5) C10(2.5,4.5) C11(3.5,4.5) C12(4.5,4.5) C13(5.5,4.5) C14(6.5,4.5) D1(-6.5,3.5) D2(-5.5,3.5) D3(-4.5,3.5) D4(-3.5,3.5) D5(-2.5,3.5) D6(-1.5,3.5) D7(-0.5,3.5) D8(0.5,3.5) D9(1.5,3.5) D10(2.5,3.5) D11(3.5,3.5) D12(4.5,3.5) D13(5.5,3.5) D14(6.5,3.5) E1(-6.5,2.5) E2(-5.5,2.5) E3(-4.5,2.5) E4(-3.5,2.5) E5(-2.5,2.5) E6(-1.5,2.5) E7(-0.5,2.5) E8(0.5,2.5) E9(1.5,2.5) E10(2.5,2.5) E11(3.5,2.5) E12(4.5,2.5) E13(5.5,2.5) E14(6.5,2.5) F1(-6.5,1.5) F2(-5.5,1.5) F3(-4.5,1.5) F4(-3.5,1.5) F5(-2.5,1.5) F6(-1.5,1.5) F7(-0.5,1.5) F8(0.5,1.5) F9(1.5,1.5) F10(2.5,1.5) F11(3.5,1.5) F12(4.5,1.5) F13(5.5,1.5) F14(6.5,1.5) G1(-6.5,0.5) G2(-5.5,0.5) G3(-4.5,0.5) G4(-3.5,0.5) G5(-2.5,0.5) G6(-1.5,0.5) G7(-0.5,0.5) G8(0.5,0.5) G9(1.5,0.5) G10(2.5,0.5) G11(3.5,0.5) G12(4.5,0.5) G13(5.5,0.5) G14(6.5,0.5) H1(-6.5,-0.5) H2(-5.5,-0.5) H3(-4.5,-0.5) H4(-3.5,-0.5) H5(-2.5,-0.5) H6(-1.5,-0.5) H7(-0.5,-0.5) H8(0.5,-0.5) H9(1.5,-0.5) H10(2.5,-0.5) H11(3.5,-0.5) H12(4.5,-0.5) H13(5.5,-0.5) H14(6.5,-0.5) J1(-6.5,-1.5) J2(-5.5,-1.5) J3(-4.5,-1.5) J4(-3.5,-1.5) J5(-2.5,-1.5) J6(-1.5,-1.5) J7(-0.5,-1.5) J8(0.5,-1.5) J9(1.5,-1.5) J10(2.5,-1.5) J11(3.5,-1.5) J12(4.5,-1.5) J13(5.5,-1.5) J14(6.5,-1.5) K1(-6.5,-2.5) K2(-5.5,-2.5) K3(-4.5,-2.5) K4(-3.5,-2.5) K5(-2.5,-2.5) K6(-1.5,-2.5) K7(-0.5,-2.5) K8(0.5,-2.5) K9(1.5,-2.5) K10(2.5,-2.5) K11(3.5,-2.5) K12(4.5,-2.5) K13(5.5,-2.5) K14(6.5,-2.5) L1(-6.5,-3.5) L2(-5.5,-3.5) L3(-4.5,-3.5) L4(-3.5,-3.5) L5(-2.5,-3.5) L6(-1.5,-3.5) L7(-0.5,-3.5) L8(0.5,-3.5) L9(1.5,-3.5) L10(2.5,-3.5) L11(3.5,-3.5) L12(4.5,-3.5) L13(5.5,-3.5) L14(6.5,-3.5) M1(-6.5,-4.5) M2(-5.5,-4.5) M3(-4.5,-4.5) M4(-3.5,-4.5) M5(-2.5,-4.5) M6(-1.5,-4.5) M7(-0.5,-4.5) M8(0.5,-4.5) M9(1.5,-4.5) M10(2.5,-4.5) M11(3.5,-4.5) M12(4.5,-4.5) M13(5.5,-4.5) M14(6.5,-4.5) N1(-6.5,-5.5) N2(-5.5,-5.5) N3(-4.5,-5.5) N4(-3.5,-5.5) N5(-2.5,-5.5) N6(-1.5,-5.5) N7(-0.5,-5.5) N8(0.5,-5.5) N9(1.5,-5.5) N10(2.5,-5.5) N11(3.5,-5.5) N12(4.5,-5.5) N13(5.5,-5.5) N14(6.5,-5.5) P1(-6.5,-6.5) P2(-5.5,-6.5) P3(-4.5,-6.5) P4(-3.5,-6.5) P5(-2.5,-6.5) P6(-1.5,-6.5) P7(-0.5,-6.5) P8(0.5,-6.5) P9(1.5,-6.5) P10(2.5,-6.5) P11(3.5,-6.5) P12(4.5,-6.5) P13(5.5,-6.5) P14(6.5,-6.5)
Top Overlay:
  circle w0.25: c-8.15,6.5 r0.125
  region: -6.5,7.5 -7.5,6.5 -7.5,7.5
  lines w0.2: -7.5,6.5 -6.5,7.5 ; -7.5,-7.5 -7.5,7.5 7.5,7.5 7.5,-7.5 -7.5,-7.5
Mechanical 13:
  lines w0.1: -7.5,-7.5 -7.5,7.5 7.5,7.5 7.5,-7.5 -7.5,-7.5
Mechanical 15:
  lines w0.1: -0.5,0 0.5,0 ; 0,-0.5 0,0.5 ; -8.5,-8.5 -8.5,8.5 8.5,8.5 8.5,-8.5 -8.5,-8.5
3D body: height 1.5, standoff 0, extent -7.5,-7.5 7.5,7.5

## GHF352 [mm] "352-Ball Ball Grid Array 1.27 mm Pitch"
height 1.7
pads (352):
  round 0.6 smd: A1(-15.875,15.875) A2(-14.605,15.875) A3(-13.335,15.875) A4(-12.065,15.875) A5(-10.795,15.875) A6(-9.525,15.875) A7(-8.255,15.875) A8(-6.985,15.875) A9(-5.715,15.875) A10(-4.445,15.875) A11(-3.175,15.875) A12(-1.905,15.875) A13(-0.635,15.875) A14(0.635,15.875) A15(1.905,15.875) A16(3.175,15.875) A17(4.445,15.875) A18(5.715,15.875) A19(6.985,15.875) A20(8.255,15.875) A21(9.525,15.875) A22(10.795,15.875) A23(12.065,15.875) A24(13.335,15.875) A25(14.605,15.875) A26(15.875,15.875) AA1(-15.875,-9.525) AA2(-14.605,-9.525) AA3(-13.335,-9.525) AA4(-12.065,-9.525) AA23(12.065,-9.525) AA24(13.335,-9.525) AA25(14.605,-9.525) AA26(15.875,-9.525) AB1(-15.875,-10.795) AB2(-14.605,-10.795) AB3(-13.335,-10.795) AB4(-12.065,-10.795) AB23(12.065,-10.795) AB24(13.335,-10.795) AB25(14.605,-10.795) AB26(15.875,-10.795) AC1(-15.875,-12.065) AC2(-14.605,-12.065) AC3(-13.335,-12.065) AC4(-12.065,-12.065) AC5(-10.795,-12.065) AC6(-9.525,-12.065) AC7(-8.255,-12.065) AC8(-6.985,-12.065) AC9(-5.715,-12.065) AC10(-4.445,-12.065) AC11(-3.175,-12.065) AC12(-1.905,-12.065) AC13(-0.635,-12.065) AC14(0.635,-12.065) AC15(1.905,-12.065) AC16(3.175,-12.065) AC17(4.445,-12.065) AC18(5.715,-12.065) AC19(6.985,-12.065) AC20(8.255,-12.065) AC21(9.525,-12.065) AC22(10.795,-12.065) AC23(12.065,-12.065) AC24(13.335,-12.065) AC25(14.605,-12.065) AC26(15.875,-12.065) AD1(-15.875,-13.335) AD2(-14.605,-13.335) AD3(-13.335,-13.335) AD4(-12.065,-13.335) AD5(-10.795,-13.335) AD6(-9.525,-13.335) AD7(-8.255,-13.335) AD8(-6.985,-13.335) AD9(-5.715,-13.335) AD10(-4.445,-13.335) AD11(-3.175,-13.335) AD12(-1.905,-13.335) AD13(-0.635,-13.335) AD14(0.635,-13.335) AD15(1.905,-13.335) AD16(3.175,-13.335) AD17(4.445,-13.335) AD18(5.715,-13.335) AD19(6.985,-13.335) AD20(8.255,-13.335) AD21(9.525,-13.335) AD22(10.795,-13.335) AD23(12.065,-13.335) AD24(13.335,-13.335) AD25(14.605,-13.335) AD26(15.875,-13.335) AE1(-15.875,-14.605) AE2(-14.605,-14.605) AE3(-13.335,-14.605) AE4(-12.065,-14.605) AE5(-10.795,-14.605) AE6(-9.525,-14.605) AE7(-8.255,-14.605) AE8(-6.985,-14.605) AE9(-5.715,-14.605) AE10(-4.445,-14.605) AE11(-3.175,-14.605) AE12(-1.905,-14.605) AE13(-0.635,-14.605) AE14(0.635,-14.605) AE15(1.905,-14.605) AE16(3.175,-14.605) AE17(4.445,-14.605) AE18(5.715,-14.605) AE19(6.985,-14.605) AE20(8.255,-14.605) AE21(9.525,-14.605) AE22(10.795,-14.605) AE23(12.065,-14.605) AE24(13.335,-14.605) AE25(14.605,-14.605) AE26(15.875,-14.605) AF1(-15.875,-15.875) AF2(-14.605,-15.875) AF3(-13.335,-15.875) AF4(-12.065,-15.875) AF5(-10.795,-15.875) AF6(-9.525,-15.875) AF7(-8.255,-15.875) AF8(-6.985,-15.875) AF9(-5.715,-15.875) AF10(-4.445,-15.875) AF11(-3.175,-15.875) AF12(-1.905,-15.875) AF13(-0.635,-15.875) AF14(0.635,-15.875) AF15(1.905,-15.875) AF16(3.175,-15.875) AF17(4.445,-15.875) AF18(5.715,-15.875) AF19(6.985,-15.875) AF20(8.255,-15.875) AF21(9.525,-15.875) AF22(10.795,-15.875) AF23(12.065,-15.875) AF24(13.335,-15.875) AF25(14.605,-15.875) AF26(15.875,-15.875) B1(-15.875,14.605) B2(-14.605,14.605) B3(-13.335,14.605) B4(-12.065,14.605) B5(-10.795,14.605) B6(-9.525,14.605) B7(-8.255,14.605) B8(-6.985,14.605) B9(-5.715,14.605) B10(-4.445,14.605) B11(-3.175,14.605) B12(-1.905,14.605) B13(-0.635,14.605) B14(0.635,14.605) B15(1.905,14.605) B16(3.175,14.605) B17(4.445,14.605) B18(5.715,14.605) B19(6.985,14.605) B20(8.255,14.605) B21(9.525,14.605) B22(10.795,14.605) B23(12.065,14.605) B24(13.335,14.605) B25(14.605,14.605) B26(15.875,14.605) C1(-15.875,13.335) C2(-14.605,13.335) C3(-13.335,13.335) C4(-12.065,13.335) C5(-10.795,13.335) C6(-9.525,13.335) C7(-8.255,13.335) C8(-6.985,13.335) C9(-5.715,13.335) C10(-4.445,13.335) C11(-3.175,13.335) C12(-1.905,13.335) C13(-0.635,13.335) C14(0.635,13.335) C15(1.905,13.335) C16(3.175,13.335) C17(4.445,13.335) C18(5.715,13.335) C19(6.985,13.335) C20(8.255,13.335) C21(9.525,13.335) C22(10.795,13.335) C23(12.065,13.335) C24(13.335,13.335) C25(14.605,13.335) C26(15.875,13.335) D1(-15.875,12.065) D2(-14.605,12.065) D3(-13.335,12.065) D4(-12.065,12.065) D5(-10.795,12.065) D6(-9.525,12.065) D7(-8.255,12.065) D8(-6.985,12.065) D9(-5.715,12.065) D10(-4.445,12.065) D11(-3.175,12.065) D12(-1.905,12.065) D13(-0.635,12.065) D14(0.635,12.065) D15(1.905,12.065) D16(3.175,12.065) D17(4.445,12.065) D18(5.715,12.065) D19(6.985,12.065) D20(8.255,12.065) D21(9.525,12.065) D22(10.795,12.065) D23(12.065,12.065) D24(13.335,12.065) D25(14.605,12.065) D26(15.875,12.065) E1(-15.875,10.795) E2(-14.605,10.795) E3(-13.335,10.795) E4(-12.065,10.795) E23(12.065,10.795) E24(13.335,10.795) E25(14.605,10.795) E26(15.875,10.795) F1(-15.875,9.525) F2(-14.605,9.525) F3(-13.335,9.525) F4(-12.065,9.525) F23(12.065,9.525) F24(13.335,9.525) F25(14.605,9.525) F26(15.875,9.525) G1(-15.875,8.255) G2(-14.605,8.255) G3(-13.335,8.255) G4(-12.065,8.255) G23(12.065,8.255) G24(13.335,8.255) G25(14.605,8.255) G26(15.875,8.255) H1(-15.875,6.985) H2(-14.605,6.985) H3(-13.335,6.985) H4(-12.065,6.985) H23(12.065,6.985) H24(13.335,6.985) H25(14.605,6.985) H26(15.875,6.985) J1(-15.875,5.715) J2(-14.605,5.715) J3(-13.335,5.715) J4(-12.065,5.715) J23(12.065,5.715) J24(13.335,5.715) J25(14.605,5.715) J26(15.875,5.715) K1(-15.875,4.445) K2(-14.605,4.445) K3(-13.335,4.445) K4(-12.065,4.445) K23(12.065,4.445) K24(13.335,4.445) K25(14.605,4.445) K26(15.875,4.445) L1(-15.875,3.175) L2(-14.605,3.175) L3(-13.335,3.175) L4(-12.065,3.175) L23(12.065,3.175) L24(13.335,3.175) L25(14.605,3.175) L26(15.875,3.175) M1(-15.875,1.905) M2(-14.605,1.905) M3(-13.335,1.905) M4(-12.065,1.905) M23(12.065,1.905) M24(13.335,1.905) M25(14.605,1.905) M26(15.875,1.905) N1(-15.875,0.635) N2(-14.605,0.635) N3(-13.335,0.635) N4(-12.065,0.635) N23(12.065,0.635) N24(13.335,0.635) N25(14.605,0.635) N26(15.875,0.635) P1(-15.875,-0.635) P2(-14.605,-0.635) P3(-13.335,-0.635) P4(-12.065,-0.635) P23(12.065,-0.635) P24(13.335,-0.635) P25(14.605,-0.635) P26(15.875,-0.635) R1(-15.875,-1.905) R2(-14.605,-1.905) R3(-13.335,-1.905) R4(-12.065,-1.905) R23(12.065,-1.905) R24(13.335,-1.905) R25(14.605,-1.905) R26(15.875,-1.905) T1(-15.875,-3.175) T2(-14.605,-3.175) T3(-13.335,-3.175) T4(-12.065,-3.175) T23(12.065,-3.175) T24(13.335,-3.175) T25(14.605,-3.175) T26(15.875,-3.175) U1(-15.875,-4.445) U2(-14.605,-4.445) U3(-13.335,-4.445) U4(-12.065,-4.445) U23(12.065,-4.445) U24(13.335,-4.445) U25(14.605,-4.445) U26(15.875,-4.445) V1(-15.875,-5.715) V2(-14.605,-5.715) V3(-13.335,-5.715) V4(-12.065,-5.715) V23(12.065,-5.715) V24(13.335,-5.715) V25(14.605,-5.715) V26(15.875,-5.715) W1(-15.875,-6.985) W2(-14.605,-6.985) W3(-13.335,-6.985) W4(-12.065,-6.985) W23(12.065,-6.985) W24(13.335,-6.985) W25(14.605,-6.985) W26(15.875,-6.985) Y1(-15.875,-8.255) Y2(-14.605,-8.255) Y3(-13.335,-8.255) Y4(-12.065,-8.255) Y23(12.065,-8.255) Y24(13.335,-8.255) Y25(14.605,-8.255) Y26(15.875,-8.255)
Top Overlay:
  circle w0.25: c-18.15,15.875 r0.125
  region: -16.5,17.5 -17.5,16.5 -17.5,17.5
  lines w0.2: -17.5,16.5 -16.5,17.5 ; -17.5,-17.5 -17.5,17.5 17.5,17.5 17.5,-17.5 -17.5,-17.5
Mechanical 13:
  lines w0.1: -17.5,-17.5 -17.5,17.5 17.5,17.5 17.5,-17.5 -17.5,-17.5
Mechanical 15:
  lines w0.1: -0.5,0 0.5,0 ; 0,-0.5 0,0.5 ; -18.5,-18.5 -18.5,18.5 18.5,18.5 18.5,-18.5 -18.5,-18.5
3D body: height 1.7, standoff 0, extent -17.5,-17.5 17.5,17.5

## GHK288 [mm] "288-Ball Ball Grid Array 0.8 mm Pitch"
height 1.4
pads (288):
  round 0.45 smd: A2(-6.4,7.2) A3(-5.6,7.2) A4(-4.8,7.2) A5(-4,7.2) A6(-3.2,7.2) A7(-2.4,7.2) A8(-1.6,7.2) A9(-0.8,7.2) A10(0,7.2) A11(0.8,7.2) A12(1.6,7.2) A13(2.4,7.2) A14(3.2,7.2) A15(4,7.2) A16(4.8,7.2) A17(5.6,7.2) A18(6.4,7.2) B1(-7.2,6.4) B2(-6.4,6.4) B3(-5.6,6.4) B4(-4.8,6.4) B5(-4,6.4) B6(-3.2,6.4) B7(-2.4,6.4) B8(-1.6,6.4) B9(-0.8,6.4) B10(0,6.4) B11(0.8,6.4) B12(1.6,6.4) B13(2.4,6.4) B14(3.2,6.4) B15(4,6.4) B16(4.8,6.4) B17(5.6,6.4) B18(6.4,6.4) B19(7.2,6.4) C1(-7.2,5.6) C2(-6.4,5.6) C3(-5.6,5.6) C4(-4.8,5.6) C5(-4,5.6) C6(-3.2,5.6) C7(-2.4,5.6) C8(-1.6,5.6) C9(-0.8,5.6) C10(0,5.6) C11(0.8,5.6) C12(1.6,5.6) C13(2.4,5.6) C14(3.2,5.6) C15(4,5.6) C16(4.8,5.6) C17(5.6,5.6) C18(6.4,5.6) C19(7.2,5.6) D1(-7.2,4.8) D2(-6.4,4.8) D3(-5.6,4.8) D17(5.6,4.8) D18(6.4,4.8) D19(7.2,4.8) E1(-7.2,4) E2(-6.4,4) E3(-5.6,4) E5(-4,4) E6(-3.2,4) E7(-2.4,4) E8(-1.6,4) E9(-0.8,4) E10(0,4) E11(0.8,4) E12(1.6,4) E13(2.4,4) E14(3.2,4) E17(5.6,4) E18(6.4,4) E19(7.2,4) F1(-7.2,3.2) F2(-6.4,3.2) F3(-5.6,3.2) F5(-4,3.2) F6(-3.2,3.2) F9(-0.8,3.2) F10(0,3.2) F12(1.6,3.2) F14(3.2,3.2) F15(4,3.2) F17(5.6,3.2) F18(6.4,3.2) F19(7.2,3.2) G1(-7.2,2.4) G2(-6.4,2.4) G3(-5.6,2.4) G5(-4,2.4) G7(-2.4,2.4) G8(-1.6,2.4) G9(-0.8,2.4) G10(0,2.4) G11(0.8,2.4) G12(1.6,2.4) G13(2.4,2.4) G15(4,2.4) G17(5.6,2.4) G18(6.4,2.4) G19(7.2,2.4) H1(-7.2,1.6) H2(-6.4,1.6) H3(-5.6,1.6) H5(-4,1.6) H7(-2.4,1.6) H8(-1.6,1.6) H9(-0.8,1.6) H10(0,1.6) H11(0.8,1.6) H12(1.6,1.6) H13(2.4,1.6) H14(3.2,1.6) H15(4,1.6) H17(5.6,1.6) H18(6.4,1.6) H19(7.2,1.6) J1(-7.2,0.8) J2(-6.4,0.8) J3(-5.6,0.8) J5(-4,0.8) J6(-3.2,0.8) J7(-2.4,0.8) J8(-1.6,0.8) J9(-0.8,0.8) J10(0,0.8) J11(0.8,0.8) J12(1.6,0.8) J13(2.4,0.8) J15(4,0.8) J17(5.6,0.8) J18(6.4,0.8) J19(7.2,0.8) K1(-7.2,0) K2(-6.4,0) K3(-5.6,0) K5(-4,0) K7(-2.4,0) K8(-1.6,0) K9(-0.8,0) K10(0,0) K11(0.8,0) K12(1.6,0) K13(2.4,0) K14(3.2,0) K15(4,0) K17(5.6,0) K18(6.4,0) K19(7.2,0) L1(-7.2,-0.8) L2(-6.4,-0.8) L3(-5.6,-0.8) L5(-4,-0.8) L6(-3.2,-0.8) L7(-2.4,-0.8) L8(-1.6,-0.8) L9(-0.8,-0.8) L10(0,-0.8) L11(0.8,-0.8) L12(1.6,-0.8) L13(2.4,-0.8) L15(4,-0.8) L17(5.6,-0.8) L18(6.4,-0.8) L19(7.2,-0.8) M1(-7.2,-1.6) M2(-6.4,-1.6) M3(-5.6,-1.6) M5(-4,-1.6) M7(-2.4,-1.6) M8(-1.6,-1.6) M9(-0.8,-1.6) M10(0,-1.6) M11(0.8,-1.6) M12(1.6,-1.6) M13(2.4,-1.6) M14(3.2,-1.6) M15(4,-1.6) M17(5.6,-1.6) M18(6.4,-1.6) M19(7.2,-1.6) N1(-7.2,-2.4) N2(-6.4,-2.4) N3(-5.6,-2.4) N5(-4,-2.4) N7(-2.4,-2.4) N8(-1.6,-2.4) N9(-0.8,-2.4) N10(0,-2.4) N11(0.8,-2.4) N12(1.6,-2.4) N13(2.4,-2.4) N15(4,-2.4) N17(5.6,-2.4) N18(6.4,-2.4) N19(7.2,-2.4) P1(-7.2,-3.2) P2(-6.4,-3.2) P3(-5.6,-3.2) P5(-4,-3.2) P6(-3.2,-3.2) P9(-0.8,-3.2) P12(1.6,-3.2) P14(3.2,-3.2) P15(4,-3.2) P17(5.6,-3.2) P18(6.4,-3.2) P19(7.2,-3.2) R1(-7.2,-4) R2(-6.4,-4) R3(-5.6,-4) R6(-3.2,-4) R7(-2.4,-4) R8(-1.6,-4) R9(-0.8,-4) R10(0,-4) R11(0.8,-4) R12(1.6,-4) R13(2.4,-4) R14(3.2,-4) R17(5.6,-4) R18(6.4,-4) R19(7.2,-4) T1(-7.2,-4.8) T2(-6.4,-4.8) T3(-5.6,-4.8) T17(5.6,-4.8) T18(6.4,-4.8) T19(7.2,-4.8) U1(-7.2,-5.6) U2(-6.4,-5.6) U3(-5.6,-5.6) U4(-4.8,-5.6) U5(-4,-5.6) U6(-3.2,-5.6) U7(-2.4,-5.6) U8(-1.6,-5.6) U9(-0.8,-5.6) U10(0,-5.6) U11(0.8,-5.6) U12(1.6,-5.6) U13(2.4,-5.6) U14(3.2,-5.6) U15(4,-5.6) U16(4.8,-5.6) U17(5.6,-5.6) U18(6.4,-5.6) U19(7.2,-5.6) V1(-7.2,-6.4) V2(-6.4,-6.4) V3(-5.6,-6.4) V4(-4.8,-6.4) V5(-4,-6.4) V6(-3.2,-6.4) V7(-2.4,-6.4) V8(-1.6,-6.4) V9(-0.8,-6.4) V10(0,-6.4) V11(0.8,-6.4) V12(1.6,-6.4) V13(2.4,-6.4) V14(3.2,-6.4) V15(4,-6.4) V16(4.8,-6.4) V17(5.6,-6.4) V18(6.4,-6.4) V19(7.2,-6.4) W2(-6.4,-7.2) W3(-5.6,-7.2) W4(-4.8,-7.2) W5(-4,-7.2) W6(-3.2,-7.2) W7(-2.4,-7.2) W8(-1.6,-7.2) W9(-0.8,-7.2) W10(0,-7.2) W11(0.8,-7.2) W12(1.6,-7.2) W13(2.4,-7.2) W14(3.2,-7.2) W15(4,-7.2) W16(4.8,-7.2) W17(5.6,-7.2) W18(6.4,-7.2)
Top Overlay:
  circle w0.25: c-8.65,7.2 r0.125
  region: -7.284,8 -8,7.284 -8,8
  lines w0.2: -8,7.284 -7.284,8 ; -8,-8 -8,8 8,8 8,-8 -8,-8
Mechanical 13:
  lines w0.1: -8,-8 -8,8 8,8 8,-8 -8,-8
Mechanical 15:
  lines w0.1: -0.5,0 0.5,0 ; 0,-0.5 0,0.5 ; -9,-9 -9,9 9,9 9,-9 -9,-9
3D body: height 1.4, standoff 0, extent -8,-8 8,8